# Altium footprint library 1N4007-T.PcbLib: 1 footprints
Each footprint in its own frame and in the unit in brackets; x right, y up, seen from the top. Pads: shape width x height; smd on the part's side, far side on the other; paste and mask are expansions set on the pad; w line width, h text height; cw(c..) or ccw(c..) is an arc to the next point about the centre after c.
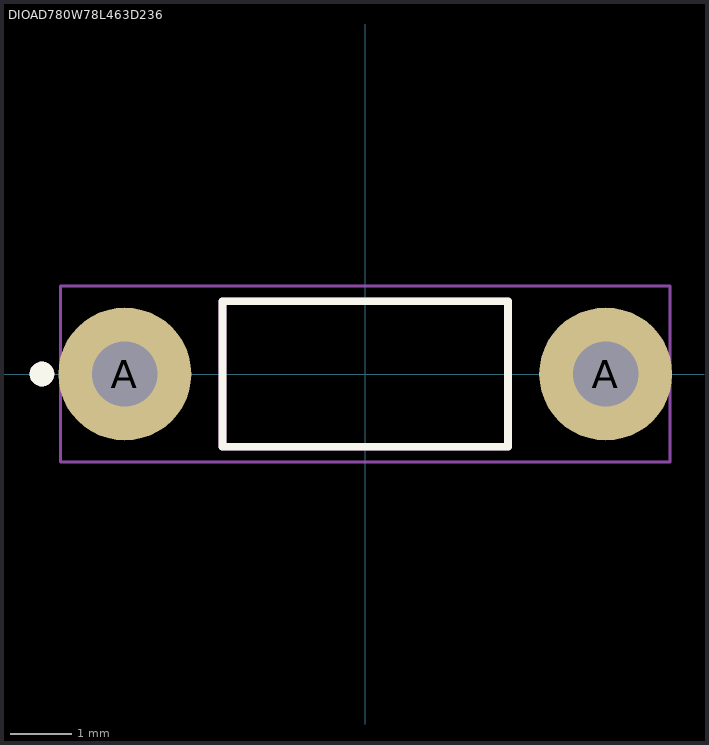
[diagram p0: the footprint, top view; thin cyan lines are the x and y axes]

## DIOAD780W78L463D236 [mil]
pads (2):
  round 85 hole 41.73: A(-153.72,0) A(153.72,0)
Top Overlay:
  circle w7.87: c-206.69,0 r3.94
  lines w5: -91.24,-46.46 91.24,-46.46 91.24,46.46 -91.24,46.46 -91.24,-46.46
Mechanical 13:
  circle w7.87: c-206.69,0 r3.94
  lines w5: -91.24,-46.46 91.24,-46.46 91.24,46.46 -91.24,46.46 -91.24,-46.46
Mechanical 15:
  lines w1.97: -194.86,-56.3 -194.86,56.3 194.86,56.3 194.86,-56.3 -194.86,-56.3
3D body "step_temp.STEP": height 106, standoff -857, extent -215.5,-53 215.5,53